# Altium integrated library CAP100PF_2KV.IntLib: 1 symbol
Pins are listed as number, name and electrical type; pins without a type are passive.

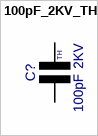
[diagram p0: symbol 100pF_2KV_TH]

## 100pF_2KV_TH
designator C?, comment value 100pF  Voltage: 2KV  Text1: TH  (hidden comment: 100pF_2KV)
100pF Film Capacitor 2KV; Manufacturer: Various; Part Number: 100pF 2KV; Package: TH; EDM-PN: *; Text2: *; Tol: 100pF; SAAB PN: *; DCE Part No: *
pins: 1, 2